# Altium footprint library Pot5k Footprint.PcbLib: 1 footprints
Each footprint in its own frame and in the unit in brackets; x right, y up, seen from the top. Pads: shape width x height; smd on the part's side, far side on the other; paste and mask are expansions set on the pad; w line width, h text height; cw(c..) or ccw(c..) is an arc to the next point about the centre after c.
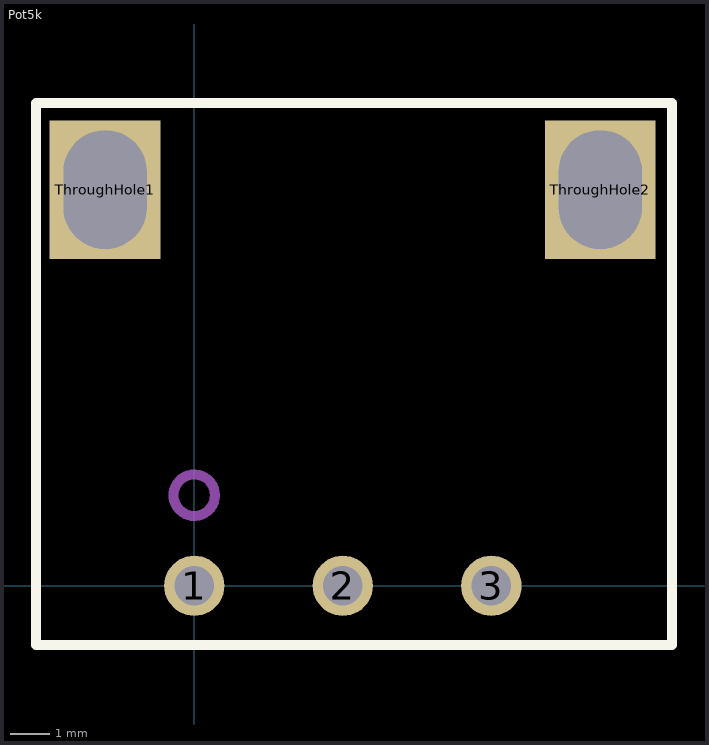
[diagram p0: the footprint, top view; thin cyan lines are the x and y axes]

## Pot5k [mm]
pads (5):
  round 1.524 hole 1: 1(0,0) 2(3.75,0) 3(7.5,0)
  rect 2.8x3.5 hole 2.1 slot 3 at 90 deg paste+3.81: ThroughHole1(-2.25,10) ThroughHole2(10.25,10)
Top Overlay:
  lines w0.254: -4,-1.5 -4,12.192 12.065,12.192 12.065,-1.5 -4,-1.5
Mechanical 1:
  circle w0.254: c0,2.286 r0.524